# Altium integrated library Johanson Technology RF Antennas.IntLib: 1 symbol
Pins are listed as number, name and electrical type; pins without a type are passive.

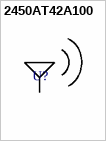
[diagram p0: symbol 2450AT42A100]

## 2450AT42A100
designator U?
2.4GHz Chip RF Antenna 2.4GHz ~ 2.5GHz 0dBi Solder Surface Mount; Manufacturer: Johanson Technology Inc.; PartNumber: 2450AT42A100; Package: 2450AT42A100; PackageDescription: SMD Chip, Body Size 5.0x2.0mm, 2-Leads; Supplier 1: Digi-Key; Supplier Part Number 1: 712-1007-2-ND
footprint 2450AT42A100 (2450AT42A100 Chip Antenna, Body Size 5.00x2.00mm, 2-Lead)
pins: 1, 2 NC hidden